# Altium footprint library Loggerhead.PcbLib: 175 footprints (part 5 of 11)
Each footprint in its own frame and in the unit in brackets; x right, y up, seen from the top. Pads: shape width x height; smd on the part's side, far side on the other; paste and mask are expansions set on the pad; w line width, h text height; cw(c..) or ccw(c..) is an arc to the next point about the centre after c.
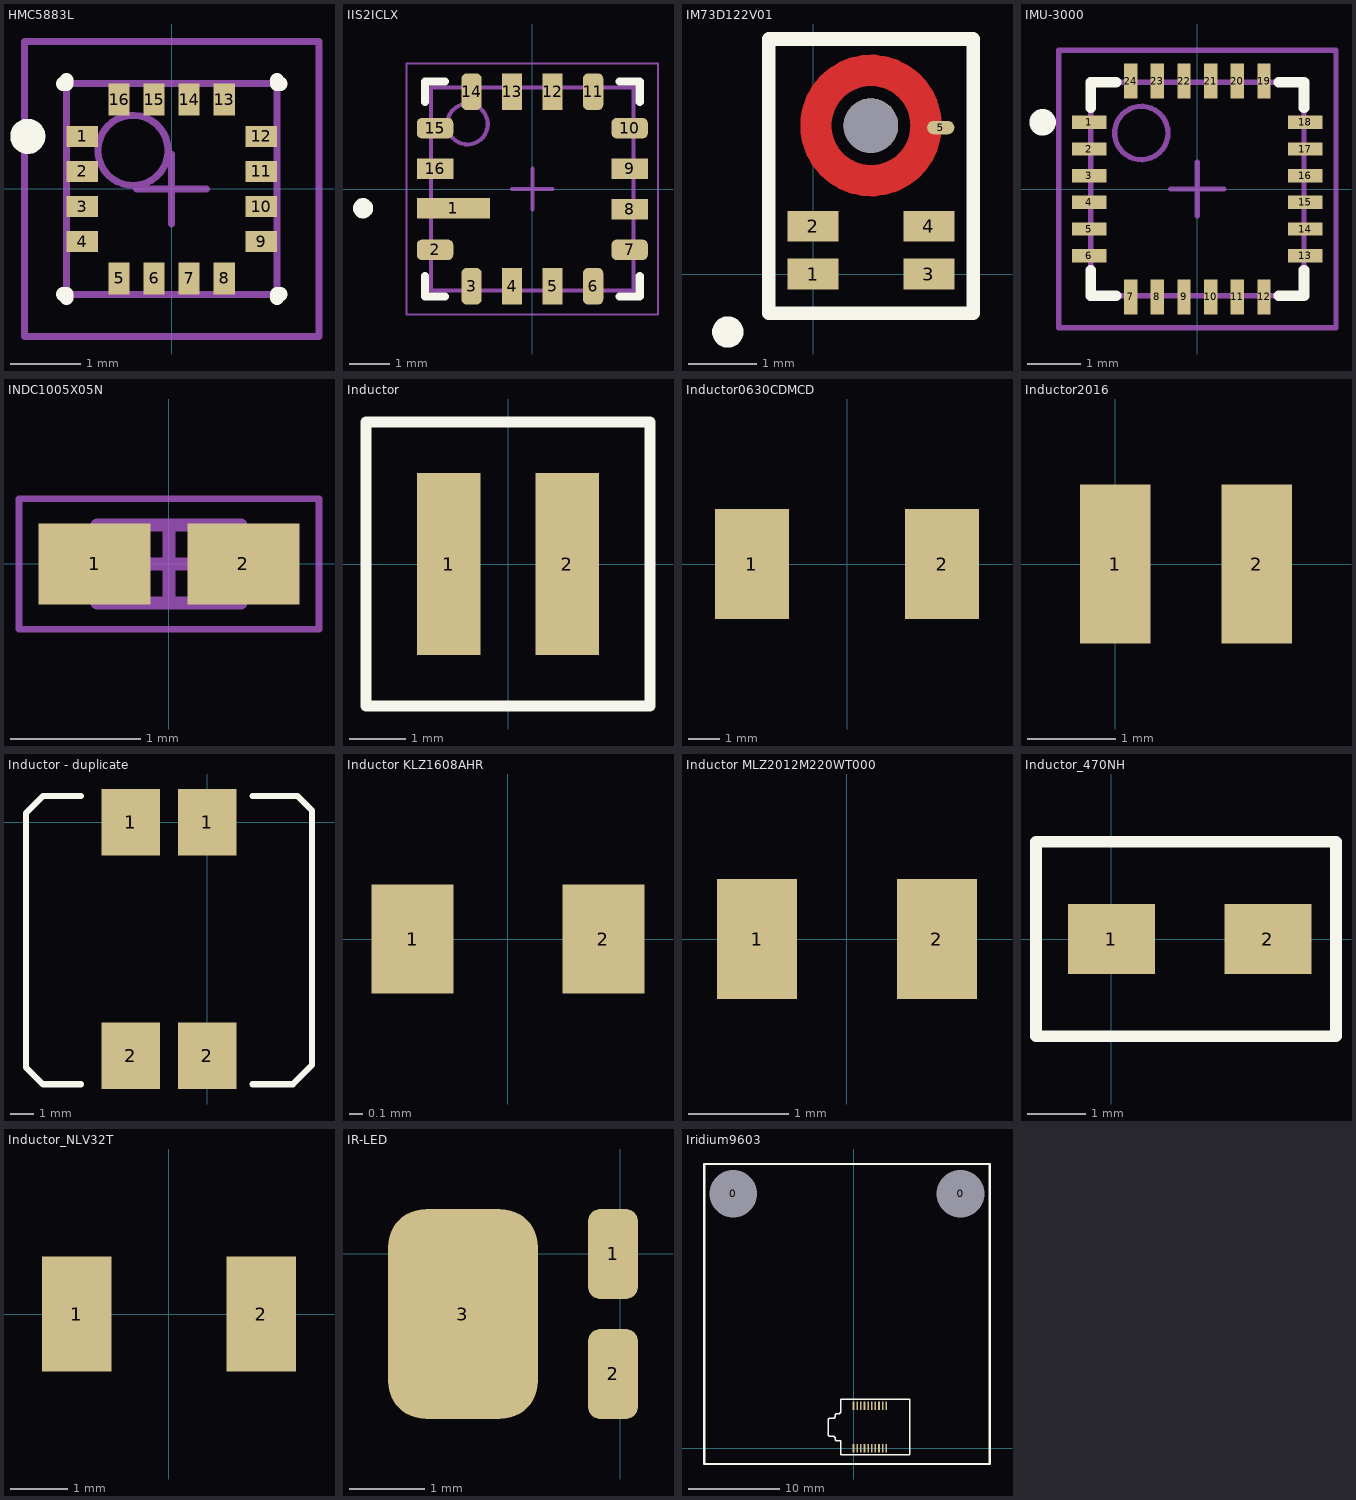
[diagram p4: the footprints below, top view; thin cyan lines are the x and y axes]

## HMC5883L [mm] "Compass 3D Honeywell"
height 0.9
pads (16):
  rect 0.45x0.3 smd: 1(-1.275,0.75) 2(-1.275,0.25) 3(-1.275,-0.25) 4(-1.275,-0.75) 9(1.275,-0.75) 10(1.275,-0.25) 11(1.275,0.25) 12(1.275,0.75)
  rect 0.3x0.45 smd: 5(-0.75,-1.275) 6(-0.25,-1.275) 7(0.25,-1.275) 8(0.75,-1.275) 13(0.75,1.275) 14(0.25,1.275) 15(-0.25,1.275) 16(-0.75,1.275)
Top Overlay:
  circle w0.25: c-2.05,0.75 r0.125
  lines w0.2: -1.55,-1.5 -1.5,-1.5 -1.5,-1.55 ; -1.55,1.5 -1.5,1.5 -1.5,1.55 ; 1.5,-1.55 1.5,-1.5 1.55,-1.5 ; 1.5,1.55 1.5,1.5 1.55,1.5
Mechanical 13:
  circle w0.1: c-0.55,0.55 r0.5
  lines w0.1: -1.5,-1.5 1.5,-1.5 1.5,1.5 -1.5,1.5 -1.5,-1.5
Mechanical 15:
  lines w0.1: -0.5,0 0.5,0 ; 0,-0.5 0,0.5 ; -2.1,-2.1 2.1,-2.1 2.1,2.1 -2.1,2.1 -2.1,-2.1
3D body: height 0.9, standoff 0.02, extent -1.5,-1.5 1.5,1.5

## IIS2ICLX [mm] "accelerometer"
height 1.7
pads (16):
  rect 1.8x0.5 smd: 1(-1.95,-0.475)
  rrect50% 0.9x0.5 smd: 2(-2.4,-1.5) 7(2.4,-1.5) 10(2.4,1.5) 15(-2.4,1.5)
  rrect50% 0.5x0.9 smd: 3(-1.5,-2.4) 6(1.5,-2.4) 11(1.5,2.4) 14(-1.5,2.4)
  rect 0.5x0.9 smd: 4(-0.5,-2.4) 5(0.5,-2.4) 12(0.5,2.4) 13(-0.5,2.4)
  rect 0.9x0.5 smd: 8(2.4,-0.5) 9(2.4,0.5) 16(-2.4,0.5)
Top Overlay:
  circle w0.25: c-4.175,-0.475 r0.125
  lines w0.2: -2.65,-2.15 -2.65,-2.65 -2.15,-2.65 ; -2.65,2.15 -2.65,2.65 -2.15,2.65 ; 2.15,-2.65 2.65,-2.65 2.65,-2.15 ; 2.15,2.65 2.65,2.65 2.65,2.15
Mechanical 13:
  circle w0.1: c-1.6,1.6 r0.5
  lines w0.1: -2.5,-2.5 -2.5,2.5 2.5,2.5 2.5,-2.5 -2.5,-2.5
Mechanical 15:
  lines w0.05: -3.1,-3.1 -3.1,3.1 3.1,3.1 3.1,-3.1 -3.1,-3.1
  lines w0.1: -0.5,0 0.5,0 ; 0,-0.5 0,0.5
3D body: height 1.7, standoff 0.08, extent -2.5,-2.5 2.5,2.5

## IM73D122V01 [mm] "Infineon MEMS Mic"
pads (6):
  rect 0.75x0.45 smd: 1(0,0) 2(0,0.7) 3(1.7,0) 4(1.7,0.7)
  oval 0.4x0.2 smd paste-10 mask+0.05: 5(1.875,2.15)
  round 0.8 hole 0.8 unplated mask+0.05: ""(0.85,2.18)
Top Layer:
  circle w0.46: c0.85,2.18 r0.81
Top Overlay:
  circle w0.254: c-1.25,-0.85 r0.103
  lines w0.2: -0.65,3.425 -0.65,-0.575 2.35,-0.575 2.35,3.425 ; -0.65,3.45 2.35,3.45
Top Paste:
  lines w0.3: 0.047,2.075 ccw(c0.85,2.18) 0.255,1.63 ; 0.076,2.417 cw(c0.85,2.18) 0.357,2.823 ; 0.536,1.426 ccw(c0.845,2.175) 1.12,1.413 ; 0.672,2.964 cw(c0.855,2.175) 1.132,2.936 ; 1.407,1.592 ccw(c0.85,2.18) 1.635,1.979 ; 1.412,2.763 cw(c0.85,2.18) 1.647,2.324
Top Solder:
  circle w0.46: c0.85,2.175 r0.81

## IMU-3000 [mm] "Invensense Gyro"
height 0.9
pads (24):
  rect 0.65x0.25 smd: 1(-2.025,1.25) 2(-2.025,0.75) 3(-2.025,0.25) 4(-2.025,-0.25) 5(-2.025,-0.75) 6(-2.025,-1.25) 13(2.025,-1.25) 14(2.025,-0.75) 15(2.025,-0.25) 16(2.025,0.25) 17(2.025,0.75) 18(2.025,1.25)
  rect 0.25x0.65 smd: 7(-1.25,-2.025) 8(-0.75,-2.025) 9(-0.25,-2.025) 10(0.25,-2.025) 11(0.75,-2.025) 12(1.25,-2.025) 19(1.25,2.025) 20(0.75,2.025) 21(0.25,2.025) 22(-0.25,2.025) 23(-0.75,2.025) 24(-1.25,2.025)
Top Overlay:
  circle w0.25: c-2.9,1.25 r0.125
  lines w0.2: -2,-1.525 -2,-2 -1.525,-2 ; -2,1.525 -2,2 -1.525,2 ; 1.525,-2 2,-2 2,-1.525 ; 1.525,2 2,2 2,1.525
Mechanical 13:
  circle w0.1: c-1.05,1.05 r0.5
  lines w0.1: -2,-2 -2,2 2,2 2,-2 -2,-2
Mechanical 15:
  lines w0.1: -0.5,0 0.5,0 ; 0,-0.5 0,0.5 ; -2.6,-2.6 -2.6,2.6 2.6,2.6 2.6,-2.6 -2.6,-2.6
3D body: height 0.9, standoff 0.02, extent -2,-2 2,2

## INDC1005X05N [mm] "Chip Inductor, 2-Leads, Body 1.00x0.50mm, IPC Medium Density"
height 0.5
pads (2):
  rect 0.86x0.62 smd: 1(-0.57,0) 2(0.57,0)
Mechanical 13:
  lines w0.1: -0.55,-0.3 0.55,-0.3 0.55,0.3 -0.55,0.3 -0.55,-0.3
Mechanical 15:
  lines w0.05: -1.15,-0.5 1.15,-0.5 1.15,0.5 -1.15,0.5 -1.15,-0.5
  lines w0.1: -0.3,0 0.3,0 ; 0,-0.3 0,0.3
3D body: height 0.5, standoff 0, extent 0.32,-0.3 0.55,0.3
3D body: height 0.5, standoff 0, extent -0.55,-0.3 -0.32,0.3
3D body: height 0.5, standoff 0, extent -0.32,-0.3 0.32,0.3

## Inductor [mm]
height 1.55
pads (2):
  rect 1.12x3.2 smd: 1(-1.04,0) 2(1.04,0)
Top Overlay:
  lines w0.2: -2.5,-2.5 -2.5,0 -2.5,2.5 2.5,2.5 2.5,-2.5 -2.5,-2.5

## Inductor0630CDMCD [mm]
pads (2):
  rect 2.35x3.5 smd: 1(-3.025,0) 2(3.025,0)

## Inductor2016 [mm]
pads (2):
  rect 0.8x1.8 smd: 1(0,0) 2(1.6,0)

## Inductor - duplicate [mm] "Sumida Inductor"
height 4.5
pads (4):
  rect 2.45x2.8 smd: 1(-3.2,0) 1(0,0) 2(-3.2,-9.8) 2(0,-9.8)
Top Overlay:
  lines w0.254: -5.3,-11 -6.9,-11 -7.6,-10.3 -7.6,0.4 -6.9,1.1 -5.3,1.1 ; 1.9,-11 3.6,-11 4.4,-10.2 4.4,0.5 3.8,1.1 1.9,1.1

## Inductor KLZ1608AHR [mm]
pads (2):
  rect 0.6x0.8 smd: 1(-0.7,0) 2(0.7,0)

## Inductor MLZ2012M220WT000 [mm]
pads (2):
  rect 0.8x1.2 smd: 1(-0.9,0) 2(0.9,0)

## Inductor_470NH [mm] "Vishay IHLP1212AEERR47M11"
pads (2):
  rect 1.5x1.2 smd: 1(0,0) 2(2.7,0)
Top Overlay:
  lines w0.2: -1.3,1.65 -1.3,-1.675 3.875,-1.675 3.875,1.675 ; -1.3,1.675 3.85,1.675

## Inductor_0630CDMCD [mm]
height 2.8

## Inductor_NLV32T [mm]
pads (2):
  rect 1.2x2 smd: 1(-1.6,0) 2(1.6,0)

## IR-LED [mm]
pads (3):
  rrect50% 0.67x1.2 smd: 1(-0.1,0) 2(-0.1,-1.6)
  rrect50% 2x2.8 smd: 3(-2.1,-0.8)

## Iridium9603 [mm]
pads (22):
  round 1.524 hole 5.25: 0(-13.222,28.01) 0(11.768,28.01)
  rect 0.18x0.93 smd paste-0.02 mask+0.05: 1(0,0) 2(0,4.67) 3(0.4,0) 4(0.4,4.67) 5(0.8,0) 6(0.8,4.67) 7(1.2,0) 8(1.2,4.67) 9(1.6,0) 10(1.6,4.67) 11(2,0) 12(2,4.67) 13(2.4,0) 14(2.4,4.67) 15(2.8,0) 16(2.8,4.67) 17(3.2,0) 18(3.2,4.67) 19(3.6,0) 20(3.6,4.67)
Top Overlay:
  lines w0.178: 6.178,5.37 6.178,-0.719 -1.428,-0.719 -1.428,0.81 -1.828,0.81 cw(c-1.828,1.01) -2.028,1.01 -2.028,1.11 ccw(c-2.228,1.11) -2.228,1.31 -2.578,1.31 cw(c-2.578,1.51) -2.778,1.51 -2.778,3.11 cw(c-2.578,3.11) -2.578,3.31 -2.228,3.31 ccw(c-2.228,3.51) -2.028,3.51 -2.028,3.61 cw(c-1.828,3.61) -1.828,3.81 -1.628,3.81 ccw(c-1.628,4.01) -1.428,4.01 -1.428,5.389 6.178,5.389
  lines w0.254: -16.422,-1.73 -16.422,31.27 14.978,31.27 14.978,-1.73 -16.422,-1.73